# EAGLE library part NTE1367 (library Audio-Power-amlifier V.2.0)
Dual, Audio Power Amp, 2.3W to 5W (4.6W to 15W BTL)
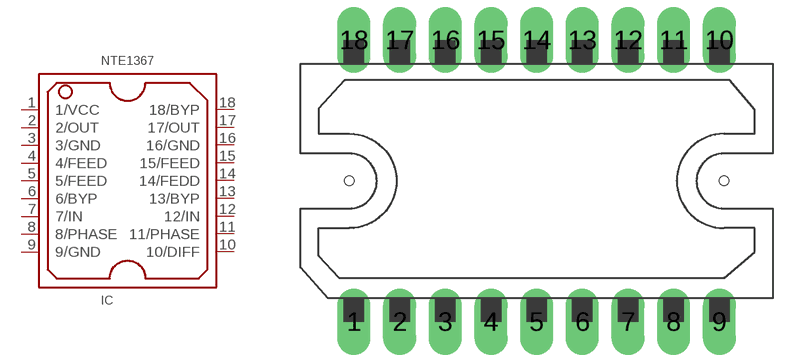
[diagram p99: symbol with the pads of DIP18-POWER; footprint DIP18-POWER]

Designator prefix IC

## NTE1367  [DIP18-POWER]
1  1/VCC  pwr
2  2/OUT  out
3  3/GND  pwr
4  4/FEED
5  5/FEED
6  6/BYP
7  7/IN  in
8  8/PHASE
9  9/GND  pwr
10  10/DIFF
11  11/PHASE
12  12/IN  in
13  13/BYP
14  14/FEDD
15  15/FEED
16  16/GND  pwr
17  17/OUT  out
18  18/BYP

## Footprint DIP18-POWER (pad centres in mm)
drill 1.4 long: 1 -11.6,-8.95; 2 -8.7,-8.95; 3 -5.8,-8.95; 4 -2.9,-8.95; 5 0,-8.95; 6 2.9,-8.95; 7 5.8,-8.95; 8 8.7,-8.95; 9 11.6,-8.95; 10 11.6,8.95; 11 8.7,8.95; 12 5.8,8.95; 13 2.9,8.95; 14 0,8.95; 15 -2.9,8.95; 16 -5.8,8.95; 17 -8.7,8.95; 18 -11.6,8.95
hole 0.6 at -11.9,0
hole 0.6 at 11.9,0